# EAGLE library part MAX3107EAG+ (library SamacSys_Parts)
Maxim,MAX3107EAG+ Maxim MAX3107EAG+ Interface RS232, RS485 24MBps, 2.35 ??? 3.6 V, 24-Pin, SSOP Source: Datasheet <https://datasheets.maximintegrated.com/en/ds/MAX3107.pdf>
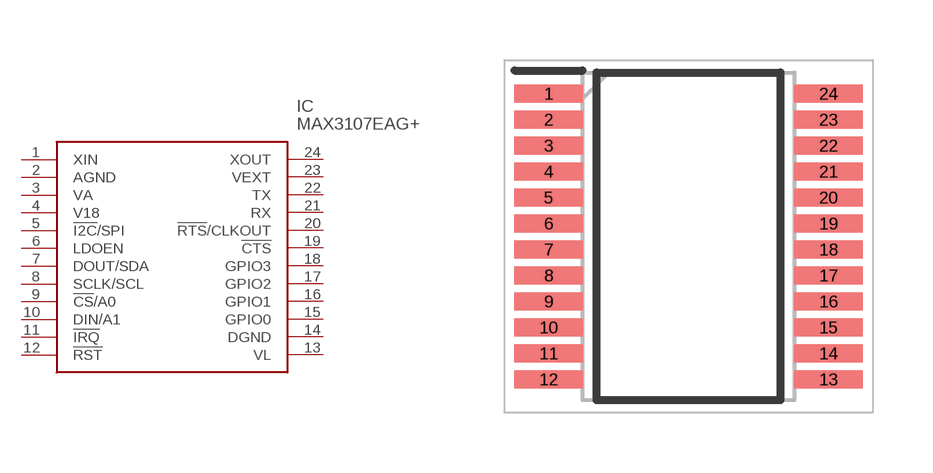
[diagram p87: symbol with the pads of SOP65P778X199-24N; footprint SOP65P778X199-24N]

Designator prefix IC

## MAX3107EAG+ (DESCRIPTION: Maxim,MAX3107EAG+ Maxim MAX3107EAG+ Interface RS232, RS485 24MBps, 2.35 ??? 3.6 V, 24-Pin, SSOP; HEIGHT: 1.99mm; MANUFACTURER_NAME: Analog Devices; MANUFACTURER_PART_NUMBER: MAX3107EAG+; MOUSER_PART_NUMBER: 700-MAX3107EAG; MOUSER_PRICE-STOCK: https://www.mouser.co.uk/ProductDetail/Maxim-Integrated/MAX3107EAG%2b?qs=o8ixQSFzeeyeRzAIxVHnzg%3D%3D)  [SOP65P778X199-24N]
1  XIN
2  AGND
3  VA
4  V18
5  !I2C!/SPI
6  LDOEN
7  DOUT/SDA
8  SCLK/SCL
9  !CS!/A0
10  DIN/A1
11  !IRQ
12  !RST
13  VL
14  DGND
15  GPIO0
16  GPIO1
17  GPIO2
18  GPIO3
19  !CTS
20  !RTS!/CLKOUT
21  RX
22  TX
23  VEXT
24  XOUT

## Footprint SOP65P778X199-24N (pad centres in mm)
24 SSOP
smd 1.705 x 0.45: 1 -3.498,3.575; 2 -3.498,2.925; 3 -3.498,2.275; 4 -3.498,1.625; 5 -3.498,0.975; 6 -3.498,0.325; 7 -3.498,-0.325; 8 -3.498,-0.975; 9 -3.498,-1.625; 10 -3.498,-2.275; 11 -3.498,-2.925; 12 -3.498,-3.575; 13 3.498,-3.575; 14 3.498,-2.925; 15 3.498,-2.275; 16 3.498,-1.625; 17 3.498,-0.975; 18 3.498,-0.325; 19 3.498,0.325; 20 3.498,0.975; 21 3.498,1.625; 22 3.498,2.275; 23 3.498,2.925; 24 3.498,3.575